# EAGLE library part EPCS4 (library lib_stankus)
Altera EPCS4 platform flash Farnell #1453496
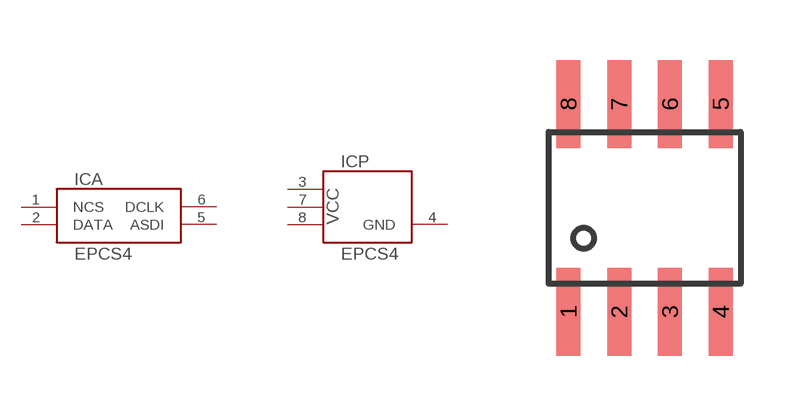
[diagram p5: symbol with the pads of SOIC8; footprint SOIC8]

Designator prefix IC; gates A=EPCS4_IO P=EPCS4_PWR

## EPCS4-SOIC8  [SOIC8]
1  A:NCS  pas
2  A:DATA  pas
3  P:VCC  pas
4  P:GND  pas
5  A:ASDI  pas
6  A:DCLK  pas
7  P:VCC  pas
8  P:VCC  pas

## Footprint SOIC8 (pad centres in mm)
SOIC8
smd 0.6 x 2.2: 1 -1.905,-2.6; 2 -0.635,-2.6; 3 0.635,-2.6; 4 1.905,-2.6; 5 1.905,2.6; 6 0.635,2.6; 7 -0.635,2.6; 8 -1.905,2.6